# EAGLE library part LT3013 (library PowerProducts)
250mA, 4V to 80V Low Dropout Micropower Linear Regulator with PWRGD
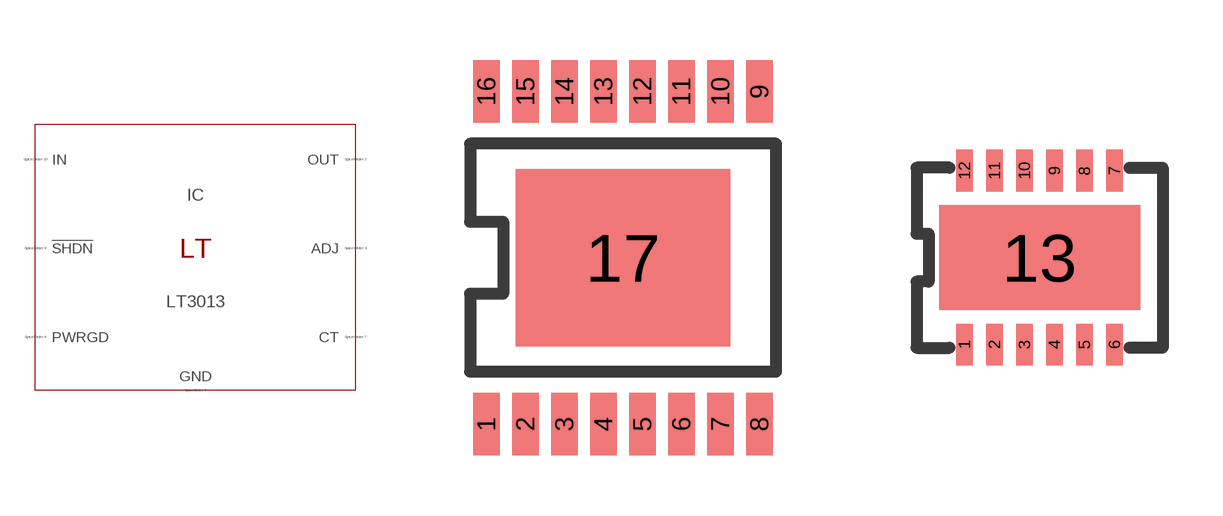
[diagram p3: symbol with the pads of TSSOP16BB(FE); footprints TSSOP16BB(FE), DFN12(DE)]

Designator prefix IC

## LT3013FE (SPICEMODEL: LT1762.lib; SPICEPREFIX: X; VALUE2: LT1762)  [TSSOP16BB(FE)]
1  GND  pas
3  OUT  pas
4  OUT  pas
5  ADJ  pas
6  GND  pas
7  PWRGD  pas
8  GND  pas
9  GND  pas
10  CT  pas
11  !SHDN  pas
13  IN  pas
14  IN  pas
16  GND  pas
17  GND  pas

## LT3013 (SPICEMODEL: LT1762.lib; SPICEPREFIX: X; VALUE2: LT1762)  [DFN12(DE)]
2  OUT  pas
3  OUT  pas
4  ADJ  pas
5  GND  pas
6  PWRGD  pas
7  CT  pas
8  !SHDN  pas
10  IN  pas
11  IN  pas
13  GND  pas

## Footprint TSSOP16BB(FE) (pad centres in mm)
Package generated from: TSSOP16BB(FE).asc (!PADS-POWERPCB-V5.0-BASIC! DESIGN DATABASE ASCII FILE 1.0) with :import-pads-powerpcb-v5.ulp Version 1.0.1 at 04.10.2012 14:11:39
smd 0.66 x 1.575: 1 -3.413,-4.162; 2 -2.438,-4.162; 3 -1.462,-4.162; 4 -0.487,-4.162; 5 0.487,-4.162; 6 1.462,-4.162; 7 2.438,-4.162; 8 3.413,-4.162; 9 3.413,4.162; 10 2.438,4.162; 11 1.462,4.162; 12 0.487,4.162; 13 -0.487,4.162; 14 -1.462,4.162; 15 -2.438,4.162; 16 -3.413,4.162
smd 5.37 x 4.425: 17 0,0

## Footprint DFN12(DE) (pad centres in mm)
Package generated from: DFN12(DE).asc (!PADS-POWERPCB-V5.0-BASIC! DESIGN DATABASE ASCII FILE 1.0) with :import-pads-powerpcb-v5.ulp Version 1.0.1 at 04.10.2012 14:11:16
smd 0.42 x 1.05: 1 -1.875,-2.175; 2 -1.125,-2.175; 3 -0.375,-2.175; 4 0.375,-2.175; 5 1.125,-2.175; 6 1.875,-2.175; 7 1.875,2.175; 8 1.125,2.175; 9 0.375,2.175; 10 -0.375,2.175; 11 -1.125,2.175; 12 -1.875,2.175
smd 5.025 x 2.625: 13 0,0